# Altium schematic symbol library P5.SchLib: 1 symbol
Pins are listed as number, name and electrical type; pins without a type are passive.

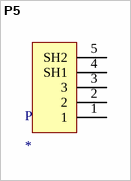
[diagram p0: symbol P5]

## P5
designator P
pins: 1, 2, 3, 4 SH1, 5 SH2